# EAGLE library part MAX6675 (library Thermocouple)
MAX6675 Thermocouple to Digital Converter
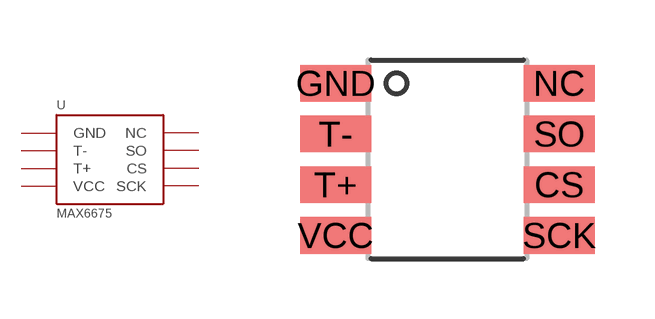
[diagram p0: symbol with the pads of SOIC-8; footprint SOIC-8]

Designator prefix -

## MAX6675  [SOIC-8]
CS  CS
GND  GND
NC  NC  nc
SCK  SCK
SO  SO
T+  T+
T-  T-
VCC  VCC

## Footprint SOIC-8 (pad centres in mm)
SOIC-8
smd 1.778 x 0.914: CS 2.794,-0.635; GND -2.794,1.905; NC 2.794,1.905; SCK 2.794,-1.905; SO 2.794,0.635; T+ -2.794,-0.635; T- -2.794,0.635; VCC -2.794,-1.905